# EAGLE library part ALPS_NAVSWITCH (library ApplicationShield)
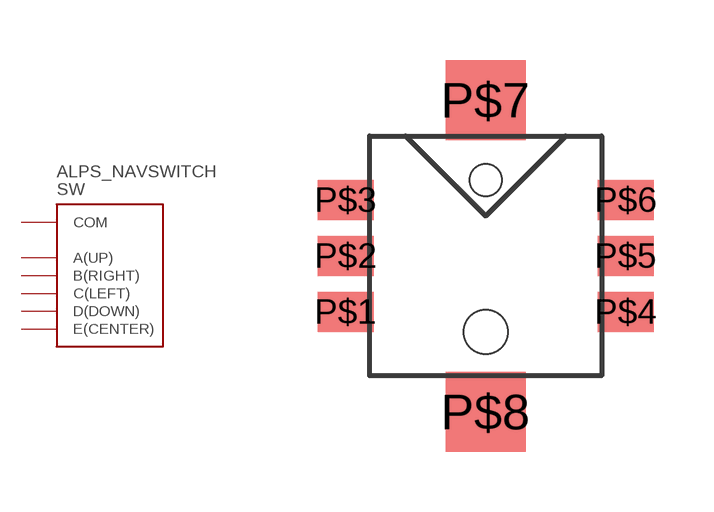
[diagram p1: symbol with the pads of SKRHA_SERIES; footprint SKRHA_SERIES]

Designator prefix SW

## ALPS_NAVSWITCH  [SKRHA_SERIES]
P$1  C(LEFT)
P$2  E(CENTER)
P$3  A(UP)
P$4  D(DOWN)
P$5  COM
P$6  B(RIGHT)

## Footprint SKRHA_SERIES (pad centres in mm)
smd 1.4 x 1: P$1 -3.5,-1.4; P$2 -3.5,0; P$3 -3.5,1.4; P$4 3.5,-1.4; P$5 3.5,0; P$6 3.5,1.4
smd 2 x 2: P$7 0,3.9; P$8 0,-3.9
hole 0.8 at 0,1.9
hole 1.1 at 0,-1.9